# EAGLE library part CLICKMATE-8 (library greg)
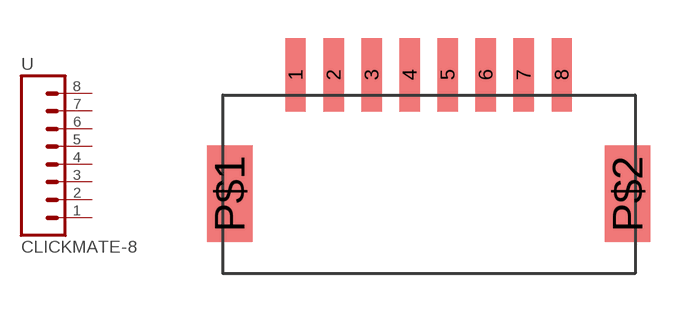
[diagram p26: symbol with the pads of CLICKMATE-8-RA; footprint CLICKMATE-8-RA]

Designator prefix -

## CLICKMATE-8  [CLICKMATE-8-RA]
1  1  pas
2  2  pas
3  3  pas
4  4  pas
5  5  pas
6  6  pas
7  7  pas
8  8  pas

## Footprint CLICKMATE-8-RA (pad centres in mm)
smd 0.8 x 2.9: 1 -5.26,3.18; 2 -3.76,3.18; 3 -2.26,3.18; 4 -0.76,3.18; 5 0.74,3.18; 6 2.24,3.18; 7 3.74,3.18; 8 5.24,3.18
smd 1.8 x 3.8: P$1 -7.86,-1.52; P$2 7.84,-1.52